# Altium schematic symbol library ic.SchLib: 65 symbols
Pins are listed as number, name and electrical type; pins without a type are passive.

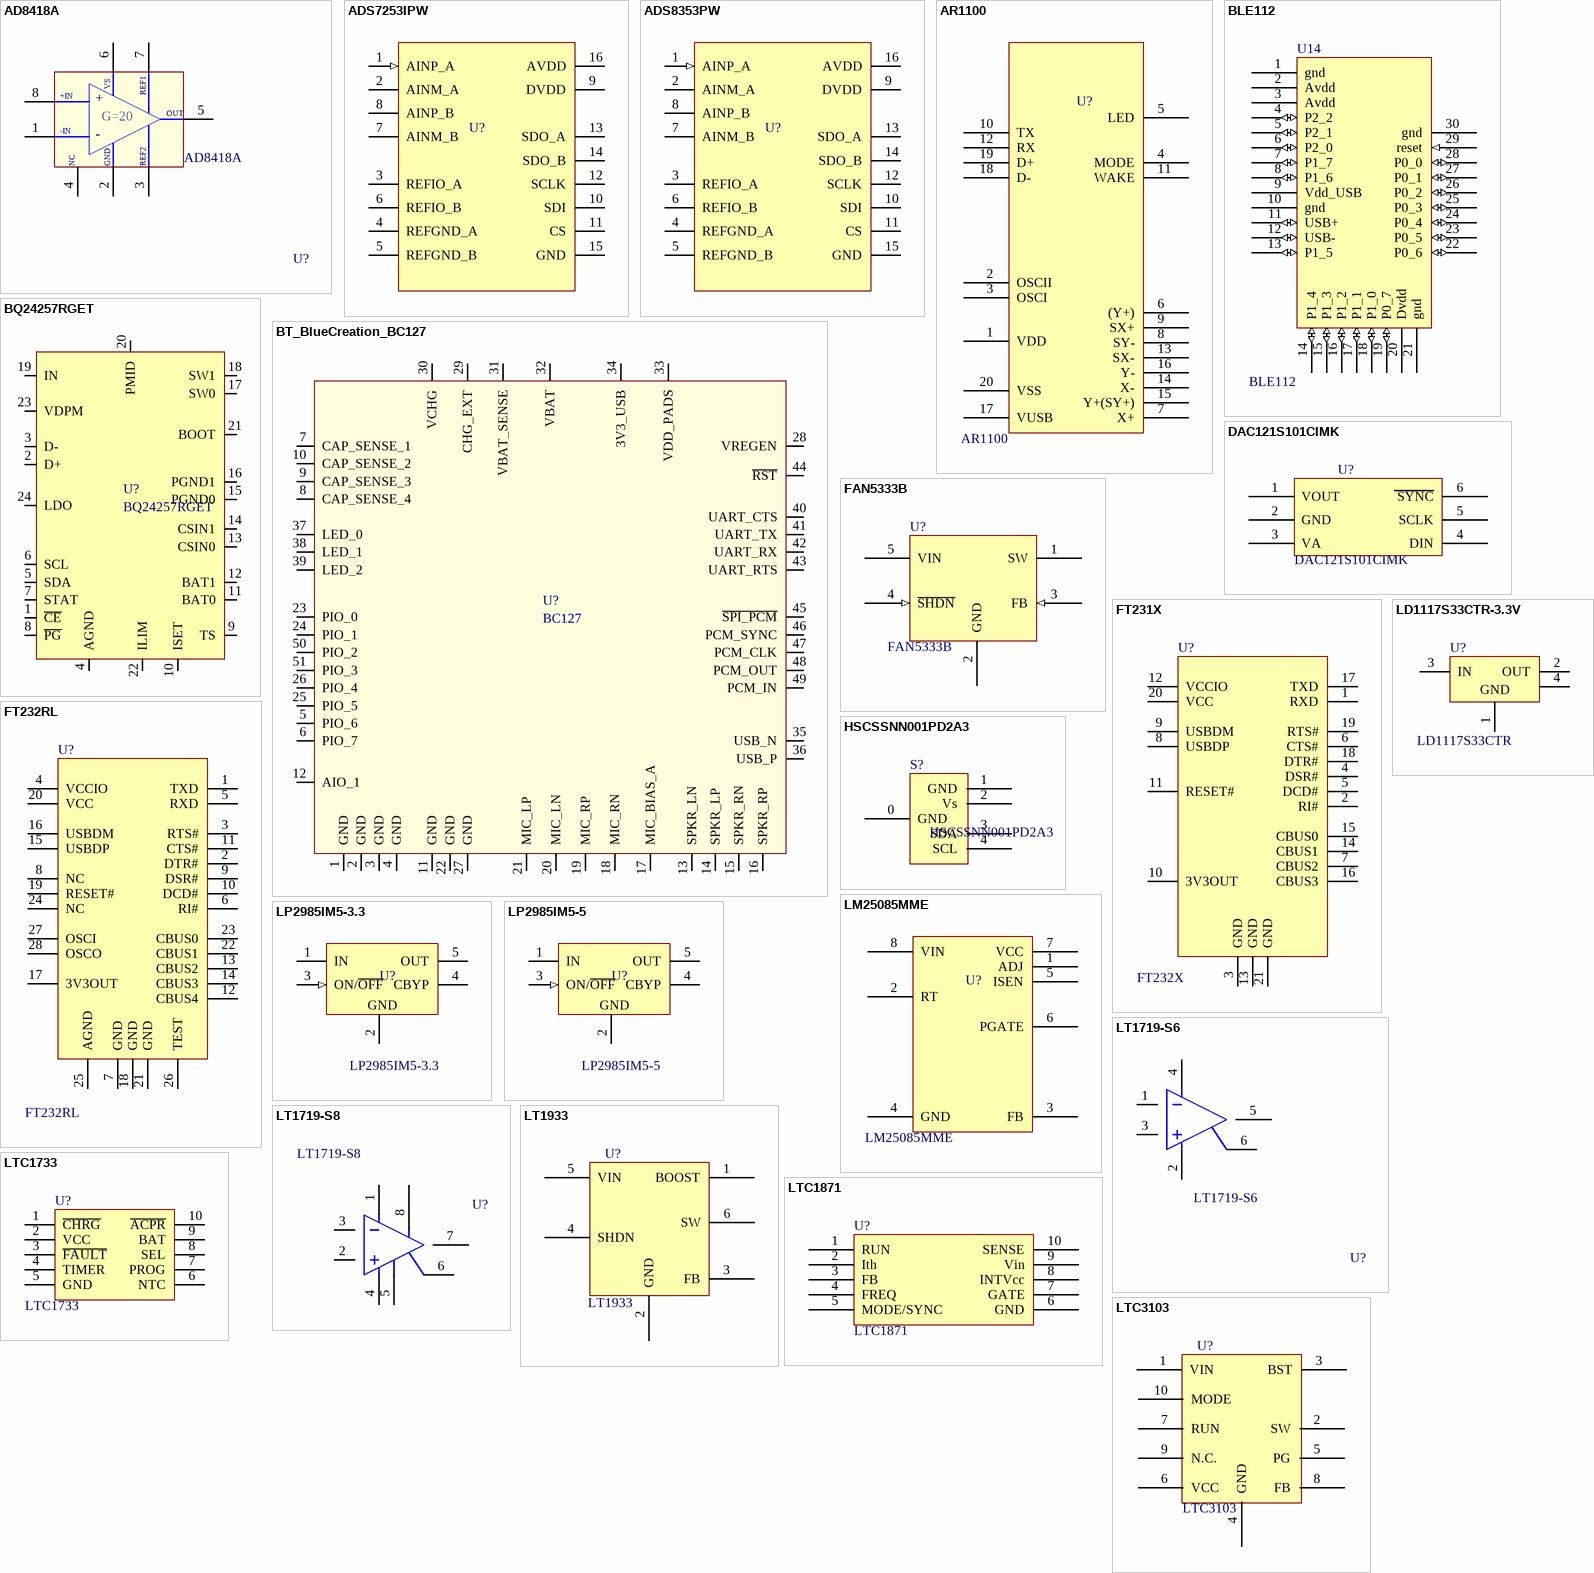
[diagram p0: symbols AD8418A to LTC3103]

## AD8418A
designator U?  value AD8418A  (hidden comment: *)
ANALOG DEVICES  AD8418AWBRMZ  AMPLIFIER, CURRENT SENSE, 250KHZ, MSOP-8; Order ID: 2383471; Price: 870; Distributor: Farnell
footprint MSOP8
pins: 1 -IN, 2 GND, 3 VREF2, 4 NC, 5 OUT, 6 VS, 7 VREF1, 8 +IN
text: REF1; +; G=20; -; REF2

## ADS7253IPW
designator U?
Analog to Digital Converters - ADC SAR ADC,Dual,1MSPS 12B,Sim Sampling; Order ID: 595-ADS7253IPW; Distributor: Mouser; Price: 2250; Value: ADS7253IPW
footprint TSSOP-16 (Shrink Small Outline, Plastic, Thin; 16 Leads; Body Width 4.4 mm; Pitch 0.65 mm)
pins: 1 AINP_A (in), 2 AINM_A (power), 3 REFIO_A, 4 REFGND_A, 5 REFGND_B, 6 REFIO_B, 7 AINM_B, 8 AINP_B, 9 DVDD, 10 SDI, 11 CS, 12 SCLK, 13 SDO_A, 14 SDO_B, 15 GND, 16 AVDD

## ADS8353PW
designator U?
Analog to Digital Converters - ADC SAR ADC,Dual,1MSPS 12B,Sim Sampling; Order ID: 296-38533-1-ND; Distributor: Digikey; Price: 2250; Value: ADS8353PW
footprint TSSOP-16 (Shrink Small Outline, Plastic, Thin; 16 Leads; Body Width 4.4 mm; Pitch 0.65 mm)
pins: 1 AINP_A (in), 2 AINM_A (power), 3 REFIO_A, 4 REFGND_A, 5 REFGND_B, 6 REFIO_B, 7 AINM_B, 8 AINP_B, 9 DVDD, 10 SDI, 11 CS, 12 SCLK, 13 SDO_A, 14 SDO_B, 15 GND, 16 AVDD

## AR1100
designator U?  value AR1100
AR1100-I/SO 20 SOIC .300in TUBcse 38; Order ID: MIC16994; Distributor: Chipcad; Price: 560
footprint SOIC300-20_M (20-Pin Plastic Wide Body Small Outline Integrated Circuit 1.27 mm Pitch, IPC Low Density)
pins: 1 VDD (power), 2 OSCII, 3 OSCI, 4 MODE, 5 LED, 6 (Y+), 7 X+, 8 SY-, 9 SX+, 10 TX, 11 WAKE, 12 RX, 13 SX-, 14 X-, 15 Y+(SY+), 16 Y-, 17 VUSB, 18 D-, 19 D+, 20 VSS (power)

## BLE112
designator U14, comment value BLE112  (hidden comment: Bluetooth module)
Bluegiga low energy single mode  module; Order ID: 1446-1017-1-ND; Distributor: Digikey; Price: 4500
footprint BLE112 (Bluegiga Bluetooth 4.0 module)
pins: 1 gnd (power), 2 Avdd (power), 3 Avdd (power), 4 P2_2 (io), 5 P2_1 (io), 6 P2_0 (io), 7 P1_7 (io), 8 P1_6 (io), 9 Vdd_USB (power), 10 gnd (power), 11 USB+ (io), 12 USB- (io), 13 P1_5 (io), 14 P1_4 (io), 15 P1_3 (io), 16 P1_2 (io), 17 P1_1 (io), 18 P1_0 (io), 19 P0_7 (io), 20 Dvdd (power), 21 gnd (power), 22 P0_6 (io), 23 P0_5 (io), 24 P0_4 (io), 25 P0_3 (io), 26 P0_2 (io), 27 P0_1 (io), 28 P0_0 (io), 29 reset (in), 30 gnd (power)

## BQ24257RGET
designator U?
IC BATT CHARGER SWITCH MODE LI-ION 24VQFN; Order ID: 296-36452-1-ND; Distributor: Digikey; Price: 280; Value: BQ24257RGET
footprint VQFN_24 (QFN, 24-Leads, Body 4x4mm, Pitch 0.5mm, Height 0.9mm)
pins: 1 ~{CE}, 2 D+, 3 D-, 4 AGND, 5 SDA, 6 SCL, 7 STAT, 8 ~{PG}, 9 TS, 10 ISET, 11 BAT0, 12 BAT1, 13 CSIN0, 14 CSIN1, 15 PGND0, 16 PGND1, 17 SW0, 18 SW1, 19 IN, 20 PMID, 21 BOOT, 22 ILIM, 23 VDPM, 24 LDO

## BT_BlueCreation_BC127
designator U?, comment BC127
Dual mode Bluetooth module; Distributor: Blue Creation; Order ID: BC127; Price: 7200; Value: BC127
footprint BT_BC127_BLUE_CREATION (Bluegiga bluetooth wt12)
pins: 1 GND, 2 GND, 3 GND, 4 GND, 5 PIO_6, 6 PIO_7, 7 CAP_SENSE_1, 8 CAP_SENSE_4, 9 CAP_SENSE_3, 10 CAP_SENSE_2, 11 GND, 12 AIO_1, 13 SPKR_LN, 14 SPKR_LP, 15 SPKR_RN, 16 SPKR_RP, 17 MIC_BIAS_A, 18 MIC_RN, 19 MIC_RP, 20 MIC_LN, 21 MIC_LP, 22 GND, 23 PIO_0, 24 PIO_1, 25 PIO_5, 26 PIO_4, 27 GND, 28 VREGEN, 29 CHG_EXT, 30 VCHG, 31 VBAT_SENSE, 32 VBAT, 33 VDD_PADS, 34 3V3_USB, 35 USB_N, 36 USB_P, 37 LED_0, 38 LED_1, 39 LED_2, 40 UART_CTS, 41 UART_TX, 42 UART_RX, 43 UART_RTS, 44 ~{RST}, 45 ~{SPI_PCM}, 46 PCM_SYNC, 47 PCM_CLK, 48 PCM_OUT, 49 PCM_IN, 50 PIO_2, 51 PIO_3

## DAC121S101CIMK
designator U?  value DAC121S101CIMK  (hidden comment: *)
TEXAS INSTRUMENTS  DAC121S101CIMK  IC, 12BIT DAC RL-RL O/P, POWERWISE; Order ID: 1101198; Distributor: Farnell; Price: 1150
footprint SOT23-6
pins: 1 VOUT, 2 GND, 3 VA, 4 DIN, 5 SCLK, 6 SYNC

## FAN5333B
designator U?  value FAN5333B  (hidden comment: *)
FAN5333B 30V 1.6MHz boost converter; Order ID: FAN5333BSXCT-ND; Price: 200; Distributor: Digikey
footprint SOT23-5
pins: 1 SW (power), 2 GND (power), 3 FB (in), 4 ~{SHDN} (in), 5 VIN (power)

## FT231X
designator U?  value FT232X  (hidden comment: *)
FT232RL (FTD) USB UART IC SSOP-28 [89-21-46]; Distributor: Lomex; Order ID: 89-21-46; Price: 872
footprint QFN50P400X400X80_HS-21N (QFN, 20-Leads, Body 4,00x4,00mm, Pitch 0,50mm, Thermal Pad 1,98x1,98mm, IPC Medium Density)
pins: 1 RXD, 2 RI#, 3 GND, 4 DSR#, 5 DCD#, 6 CTS#, 7 CBUS2, 8 USBDP, 9 USBDM, 10 3V3OUT, 11 RESET#, 12 VCCIO, 13 GND, 14 CBUS1, 15 CBUS0, 16 CBUS3, 17 TXD, 18 DTR#, 19 RTS#, 20 VCC, 21 GND
2 alternate drawings of the same symbol

## FT232RL
designator U?  value FT232RL  (hidden comment: *)
FT232RL (FTD) USB UART IC SSOP-28 [89-21-46]; Distributor: Lomex; Order ID: 89-21-46; Price: 872
footprint SSOP-28_3D (SSOP, Plastic; 28 Leads; Body Width 5.2 mm; Pitch 0.65 mm)
pins: 1 TXD, 2 DTR#, 3 RTS#, 4 VCCIO, 5 RXD, 6 RI#, 7 GND, 8 NC, 9 DSR#, 10 DCD#, 11 CTS#, 12 CBUS4, 13 CBUS2, 14 CBUS3, 15 USBDP, 16 USBDM, 17 3V3OUT, 18 GND, 19 RESET#, 20 VCC, 21 GND, 22 CBUS1, 23 CBUS0, 24 NC, 25 AGND, 26 TEST, 27 OSCI, 28 OSCO
2 alternate drawings of the same symbol

## HSCSSNN001PD2A3
designator S?
HONEYWELL S&C - HSCSSNN001PD2A3 - SENSOR, TRUSTABILITY, 1PSI, 3.3V, SIP; Order ID: 1823228; Distributor: Farnell; Price: 12200; Value: HSCSSNN001PD2A3
footprint HONEYWELL_HSC_SN_90D (Honeywell HSC SERIES PRESSURE SENSORE)
pins: 0 GND, 1 GND, 2 Vs, 3 SDA, 4 SCL

## LD1117S33CTR-3.3V
designator U?  value LD1117S33CTR
LD1117S33CTR (STM) FIX 3.3V 0.95A LDO.VOLT.REG. SOT-223 -40+150°C [89-06-98]; Distributor: Lomex; Order ID: 89-06-98; Price: 40
footprint SOT-223
pins: 1 GND, 2 OUT, 3 IN, 4 GND
2 alternate drawings of the same symbol

## LM25085MME
designator U?
TEXAS INSTRUMENTS - LM25085MME - IC, SW BUCK CONTROLLER, 42V, 8SOIC; Order ID: 1689554; Distributor: Farnell; Price: 787; Value: LM25085MME
footprint MSOP8
pins: 1 ADJ, 2 RT, 3 FB, 4 GND, 5 ISEN, 6 PGATE, 7 VCC, 8 VIN

## LP2985IM5-3.3
designator U?
Micropower 150 mA Low-Noise Ultra Low-Dropout Regulator in  SOT-23 and micro SMD Packages; Value: LP2985IM5-3.3; Distributor: Lomex; Price: 108; Order ID: 89-08-85
footprint SOT23-5
pins: 1 IN (power), 2 GND (power), 3 ON/~{OFF} (in), 4 CBYP, 5 OUT (power)

## LP2985IM5-5
designator U?
Micropower 150 mA Low-Noise Ultra Low-Dropout Regulator in  SOT-23 and micro SMD Packages; Order ID: 1564671; Value: LP2985IM5-5; Distributor: Farnell; Price: 240
footprint SOT23-5
pins: 1 IN (power), 2 GND (power), 3 ON/~{OFF} (in), 4 CBYP, 5 OUT (power)

## LT1719-S6
designator U?  value LT1719-S6  (hidden comment: *)
4.5ns Single/Dual Supply 3V/5V IC COMP R-RINOUT SINGLE SOT23-6; Order ID: LT1719CS6#TRMPBFCT-ND; Price: 700; Distributor: Digikey
footprint SOT23-6
pins: 1 IN-, 2 VEE, 3 IN+, 4 VCC, 5 OUT, 6 SHDN

## LT1719-S8
designator U?  value LT1719-S8  (hidden comment: *)
4.5ns Single/Dual Supply 3V/5V Comparator with Rail-to-Rail Output; Order ID: LT1719CS8#PBF-ND; Price: 800.00; Distributor: Digikey
footprint Model Name (Footprint not found)
footprint SO-8_N (8-Pin Small Outline Integrated Circuit 1.27 mm Pitch, IPC Medium Density)
pins: 1 VCC, 2 IN+, 3 IN-, 4 VEE, 5 GND, 6 SHDN, 7 OUT, 8 VS

## LT1933
designator U?  value LT1933  (hidden comment: *)
LINEAR TECHNOLOGY  LT1933ES6#TRMPBF  IC, SWITCHING REG, 500KHZ, TSOT23-6; Order ID: 1663809RL; Distributor: Farnell; Price: 1145
footprint SOT23-6
pins: 1 BOOST, 2 GND, 3 FB, 4 SHDN, 5 VIN, 6 SW

## LTC1733
designator U?
LTC1733 Li-Ion Battery Charger; Order ID: LTC1733EMSE#PBF-ND; Distributor: Digikey; Price: 780; Value: LTC1733
footprint MSOP10H
pins: 1 ~{CHRG}, 2 VCC, 3 ~{FAULT}, 4 TIMER, 5 GND, 6 NTC, 7 PROG, 8 SEL, 9 BAT, 10 ~{ACPR}

## LTC1871
designator U?
LINEAR TECHNOLOGY - LTC1871EMS#PBF - IC, DC/DC CONTROLLER, MOSFET, MSOP-10; Order ID: 1273534; Distributor: Farnell; Price: 1100; Value: LTC1871
footprint MSOP10
pins: 1 RUN, 2 Ith, 3 FB, 4 FREQ, 5 MODE/SYNC, 6 GND, 7 GATE, 8 INTVcc, 9 Vin, 10 SENSE

## LTC3103
designator U?  value LTC3103  (hidden comment: *)
IC REG BUCK SYNC ADJ 0.3A 10MSOP LTC3103EMSE#PBF; Order ID: LTC3103EMSE#PBF-ND; Distributor: Digikey; Price: 1145
footprint MSOP10
pins: 1 VIN, 2 SW, 3 BST, 4 GND, 5 PG, 6 VCC, 7 RUN, 8 FB, 9 N.C., 10 MODE

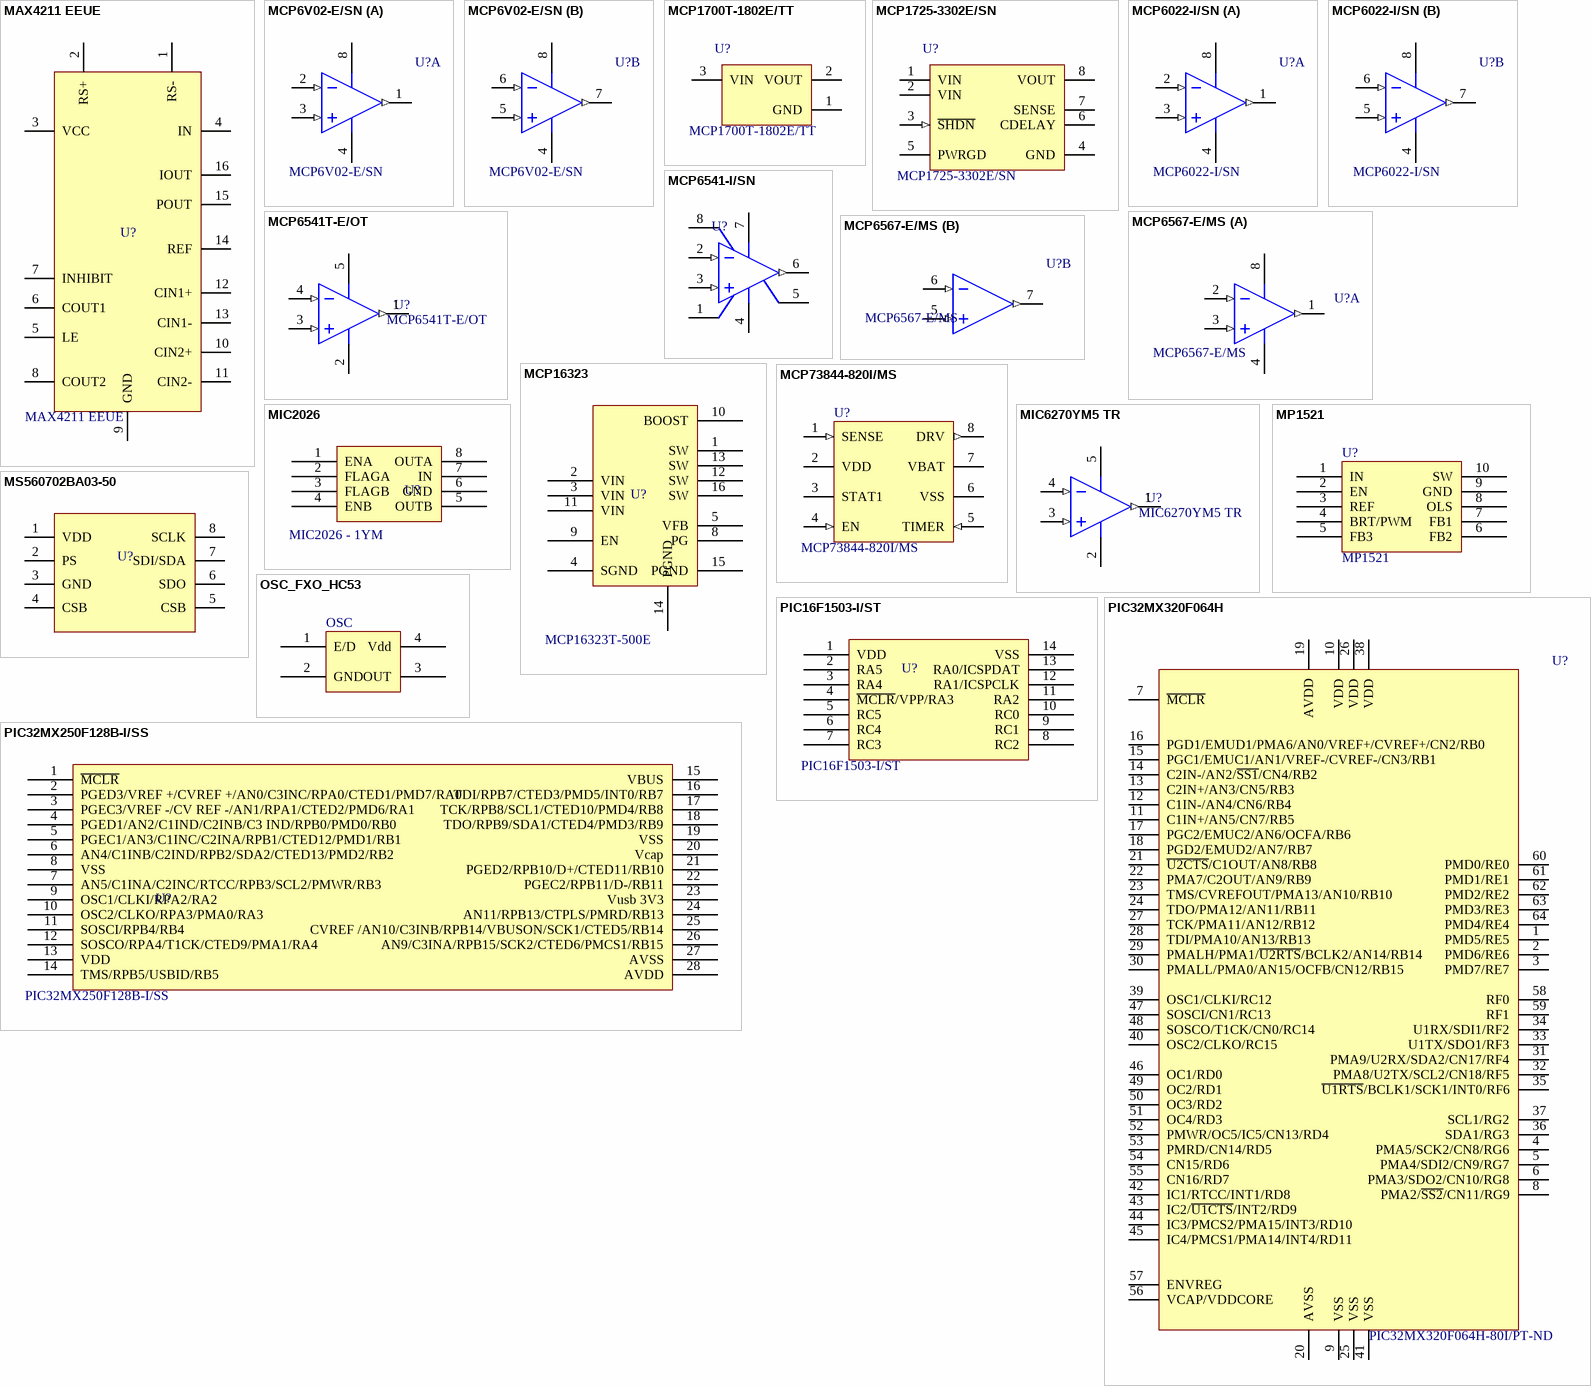
[diagram p1: symbols MAX4211 EEUE to PIC32MX320F064H]

## MAX4211 EEUE
designator U?  value MAX4211 EEUE
MAXIM INTEGRATED PRODUCTS  MAX4211EEUE+  POWER / CURRENT SENSE, 2 COMP, 16TSSOP; Order ID: 2212278; Distributor: Farnell; Price: 1166
footprint TSSOP-16 (Shrink Small Outline, Plastic, Thin; 16 Leads; Body Width 4.4 mm; Pitch 0.65 mm)
pins: 1 RS-, 2 RS+, 3 VCC, 4 IN, 5 LE, 6 COUT1, 7 INHIBIT, 8 COUT2, 9 GND, 10 CIN2+, 11 CIN2-, 12 CIN1+, 13 CIN1-, 14 REF, 15 POUT, 16 IOUT

## MCP6V02-E/SN
designator U?  value MCP6V02-E/SN  (hidden comment: *)
Operational Amplifiers - Op Amps Dual Auto-Zero Op Amp E Temp; Order ID: 579-MCP6V02-E/SN; Price: 720; Distributor: Mouser
footprint SOIC-SN8_N (SOIC, 8-Leads, Body 4.9x3.8mm, Pitch 1.27mm, IPC Medium Density)
pins on every part: 4 VSS (power), 8 VDD (power)
part A pins: 1 VOUTA (out), 2 VINA- (in), 3 VINA+ (in)
part B pins: 5 VINB+ (in), 6 VINB- (in), 7 VOUTB (out)

## MCP1700T-1802E/TT
designator U?
Low Quiescent Current LDO, 3-Pin SOT-23, Extended Temperature, Tape and Reel; Order ID: MIC3628; Price: 87; Distributor: Chipcad; Value: MCP1700T-1802E/TT
footprint SOT-23-3_N (SOT23, 3-Leads, Body 2.9x1.3mm, Pitch 0.95mm, Lead Span 2.4mm, IPC Medium Density)
pins: 1 GND (power), 2 VOUT (power), 3 VIN (power)

## MCP1725-3302E/SN
designator U?
MCP1725-3302E/SN SOIC-8 3,3V 500mA; Order ID: MIC8535; Distributor: Chipcad; Price: 122; Value: MCP1725-3302E/SN
footprint SO-8_N (8-Pin Small Outline Integrated Circuit 1.27 mm Pitch, IPC Medium Density)
pins: 1 VIN (power), 2 VIN (power), 3 ~{SHDN} (in), 4 GND (power), 5 PWRGD (power), 6 CDELAY, 7 SENSE, 8 VOUT (power)

## MCP6022-I/SN
designator U?  value MCP6022-I/SN  (hidden comment: *)
Rail-to-Rail Input/Output, 10 MHz Operational Amplifier, 8-Pin SOIC, Industrial Temperature; Order ID: MCP6022-I/SN; Price: 260.00; Distributor: ChipCAD
footprint SO-8_N (8-Pin Small Outline Integrated Circuit 1.27 mm Pitch, IPC Medium Density)
footprint SOIC-SN8_L (SOIC, 8-Leads, Body 4.9x3.8mm, Pitch 1.27mm, IPC High Density)
footprint SOIC-SN8_M (SOIC, 8-Leads, Body 4.9x3.8mm, Pitch 1.27mm, IPC Low Density)
footprint SOIC-SN8_N (SOIC, 8-Leads, Body 4.9x3.8mm, Pitch 1.27mm, IPC Medium Density)
footprint SO8
pins on every part: 4 VSS (power), 8 VDD (power)
part A pins: 1 VOUTA (out), 2 VINA- (in), 3 VINA+ (in)
part B pins: 5 VINB+ (in), 6 VINB- (in), 7 VOUTB (out)

## MCP6541-I/SN
designator U?
Push-Pull Output Sub-Microamp Comparator, 8-Pin SOIC, Industrial Temperature; Value: MCP6541-I/SN; Order ID: MIC1965; Distributor: Chipcad; Price: 53
footprint SOIC-SN8_N (SOIC, 8-Leads, Body 4.9x3.8mm, Pitch 1.27mm, IPC Medium Density)
pins: 1 NC, 2 VIN- (in), 3 VIN+ (in), 4 VSS (power), 5 NC, 6 OUT (out), 7 VDD (power), 8 NC

## MCP6541T-E/OT
designator U?
Push-Pull Output Sub-Microamp Comparator, 5-Pin SOT-23, Extended Temperature, Tape and Reel; Order ID: MIC6791; Value: MCP6541T-E/OTGVAO; Distributor: Chipcad; Price: 80
footprint SOT23-5
pins: 1 OUT (out), 2 VSS (power), 3 VIN+ (in), 4 VIN- (in), 5 VDD (power)

## MCP6567-E/MS
designator U?  value MCP6567-E/MS  (hidden comment: *)
Analogue Comparator, Dual, Low Power, 2, 34 ns, 1.8V to 5.5V, MSOP, 8; Order ID: 1834862; Price: 216; Distributor: Farnell
footprint MSOP8
part A pins: 1 VOUTA (out), 2 VINA- (in), 3 VINA+ (in), 4 VSS (power), 8 VDD (power)
part B pins: 5 VINB+ (in), 6 VINB- (in), 7 VOUTB (out)

## MCP16323
designator U?  value MCP16323T-500E  (hidden comment: MCP16323)
MCP16323T-500E/NG 16 VQFN 3x3x0.9mm; Order ID: MIC18788; Distributor: Chipcad; Price: 550
footprint QFN50P300X300-16W4M_3D (QFN, 16-Leads, Body 3x3mm, Pitch 0.5mm, IPC Low Density)
pins: 1 SW, 2 VIN, 3 VIN, 4 SGND, 5 VFB, 6 NC hidden, 7 NC hidden, 8 PG, 9 EN, 10 BOOST, 11 VIN, 12 SW, 13 SW, 14 PGND, 15 PGND, 16 SW

## MCP73844-820I/MS
designator U?  value MCP73844-820I/MS
Dual Series cell Li-Ion/Li-Polymer Charge Management Controller, 8.2V, 8-Pin MSOP, Industrial Temperature; Order ID: MIC2680; Distributor: Chipcad; Price: 310
footprint MSOP8
pins: 1 SENSE (in), 2 VDD (power), 3 STAT1 (oc), 4 EN (in), 5 TIMER (in), 6 VSS (power), 7 VBAT (power), 8 DRV (out)

## MIC2026
designator U?, comment MIC2026 - 1YM
MICREL SEMICONDUCTOR - MIC2026-1YM - SWITCH, MOSFET, DUAL, 140R, 0.5A, 8SOIC; Order ID: 1517242; Distributor: Farnell; Price: 293.86; Value: MIC2026 - 1YM
footprint SOIC208-8_M (8-Pin Plastic Medium Body Small Outline Package 1.27 mm Pitch, IPC Low Density)
pins: 1 ENA, 2 FLAGA, 3 FLAGB, 4 ENB, 5 OUTB, 6 GND, 7 IN, 8 OUTA

## MIC6270YM5 TR
designator U?
Comparator, OPEN COLLECTOR MICREL SEMICONDUCTOR  MIC6270YM5 TR  COMPARATOR, 36V, 0.6US, 5SOT23; Order ID: 2219060; Distributor: Farnell; Price: 190; Value: MIC6270YM5 TR
footprint SOT23-5
pins: 1 OUT (out), 2 VSS (power), 3 VIN+ (in), 4 VIN- (in), 5 VDD (power)

## MP1521
designator U?
White led driver, boost converter up to 15 white led.; Order ID: MP1521EK; Value: MP1521; Distributor: Chipcad; Price: 390
footprint MSOP10
pins: 1 IN, 2 EN, 3 REF, 4 BRT/PWM, 5 FB3, 6 FB2, 7 FB1, 8 OLS, 9 GND, 10 SW

## MS560702BA03-50
designator U?  (value not drawn)
SENSOR, BAROMETRIC, 0.01-1.2BAR; Order ID: 2362660; Distributor: Farnell; Price: 685; Value: MS560702BA03-50
footprint MS5607-02BA
pins: 1 VDD, 2 PS, 3 GND, 4 CSB, 5 CSB, 6 SDO, 7 SDI/SDA, 8 SCLK

## OSC_FXO_HC53
designator OSC
OSC_FXO_HC53; Value: 200MHz; Order ID: 631-1153-1-ND; Distributor: Digikey; Price: 1620
footprint OSC_FXO_HC53
pins: 1 E/D, 2 GND, 3 OUT, 4 Vdd

## PIC16F1503-I/ST
designator U?
PIC16F1503-I/ST 14 TSSOP 4.4mm TUBcse 96; Order ID: MIC17244; Distributor: Chipcad; Price: 193; Value: PIC16F1503-I/ST
footprint TSSOP-14 (Shrink Small Outline, Plastic, Thin; 14 Leads; Body Width 4.4 mm; Pitch 0.65 mm)
pins: 1 VDD, 2 RA5, 3 RA4, 4 ~{MCLR}/VPP/RA3, 5 RC5, 6 RC4, 7 RC3, 8 RC2, 9 RC1, 10 RC0, 11 RA2, 12 RA1/ICSPCLK, 13 RA0/ICSPDAT, 14 VSS

## PIC32MX250F128B-I/SS
designator U?  value PIC32MX250F128B-I/SS
MICROCHIP - PIC32MX250F128B-I/SS - IC, MCU, 32BIT, 128KB FLASH, 28SSOP; Order ID: MIC18703; Distributor: Chipcad; Price: 850
footprint SSOP-28_3D (SSOP, Plastic; 28 Leads; Body Width 5.2 mm; Pitch 0.65 mm)
pins: 1 ~{MCLR}, 2 PGED3/VREF +/CVREF +/AN0/C3INC/RPA0/CTED1/PMD7/RA0, 3 PGEC3/VREF -/CV REF -/AN1/RPA1/CTED2/PMD6/RA1, 4 PGED1/AN2/C1IND/C2INB/C3 IND/RPB0/PMD0/RB0, 5 PGEC1/AN3/C1INC/C2INA/RPB1/CTED12/PMD1/RB1, 6 AN4/C1INB/C2IND/RPB2/SDA2/CTED13/PMD2/RB2, 7 AN5/C1INA/C2INC/RTCC/RPB3/SCL2/PMWR/RB3, 8 VSS, 9 OSC1/CLKI/RPA2/RA2, 10 OSC2/CLKO/RPA3/PMA0/RA3, 11 SOSCI/RPB4/RB4, 12 SOSCO/RPA4/T1CK/CTED9/PMA1/RA4, 13 VDD, 14 TMS/RPB5/USBID/RB5, 15 VBUS, 16 TDI/RPB7/CTED3/PMD5/INT0/RB7, 17 TCK/RPB8/SCL1/CTED10/PMD4/RB8, 18 TDO/RPB9/SDA1/CTED4/PMD3/RB9, 19 VSS, 20 Vcap, 21 PGED2/RPB10/D+/CTED11/RB10, 22 PGEC2/RPB11/D-/RB11, 23 Vusb 3V3, 24 AN11/RPB13/CTPLS/PMRD/RB13, 25 CVREF /AN10/C3INB/RPB14/VBUSON/SCK1/CTED5/RB14, 26 AN9/C3INA/RPB15/SCK2/CTED6/PMCS1/RB15, 27 AVSS, 28 AVDD

## PIC32MX320F064H
designator U?  value PIC32MX320F064H-80I/PT-ND  (hidden comment: *)
PIC32MX320F064H-80I/PT - 32BIT MCU, 64K FLASH, SMD, TQFP64; Distributor: Digikey; Order ID: PIC32MX320F064H-80I/PT-ND; Price: 1300
footprint TQFP-64_PT
pins: 1 PMD5/RE5, 2 PMD6/RE6, 3 PMD7/RE7, 4 PMA5/SCK2/CN8/RG6, 5 PMA4/SDI2/CN9/RG7, 6 PMA3/SDO2/CN10/RG8, 7 ~{MCLR}, 8 PMA2/~{SS2}/CN11/RG9, 9 VSS, 10 VDD, 11 C1IN+/AN5/CN7/RB5, 12 C1IN-/AN4/CN6/RB4, 13 C2IN+/AN3/CN5/RB3, 14 C2IN-/AN2/~{SS1}/CN4/RB2, 15 PGC1/EMUC1/AN1/VREF-/CVREF-/CN3/RB1, 16 PGD1/EMUD1/PMA6/AN0/VREF+/CVREF+/CN2/RB0, 17 PGC2/EMUC2/AN6/OCFA/RB6, 18 PGD2/EMUD2/AN7/RB7, 19 AVDD, 20 AVSS, 21 ~{U2CTS}/C1OUT/AN8/RB8, 22 PMA7/C2OUT/AN9/RB9, 23 TMS/CVREFOUT/PMA13/AN10/RB10, 24 TDO/PMA12/AN11/RB11, 25 VSS, 26 VDD, 27 TCK/PMA11/AN12/RB12, 28 TDI/PMA10/AN13/RB13, 29 PMALH/PMA1/~{U2RTS}/BCLK2/AN14/RB14, 30 PMALL/PMA0/AN15/OCFB/CN12/RB15, 31 PMA9/U2RX/SDA2/CN17/RF4, 32 PMA8/U2TX/SCL2/CN18/RF5, 33 U1TX/SDO1/RF3, 34 U1RX/SDI1/RF2, 35 ~{U1RTS}/BCLK1/SCK1/INT0/RF6, 36 SDA1/RG3, 37 SCL1/RG2, 38 VDD, 39 OSC1/CLKI/RC12, 40 OSC2/CLKO/RC15, 41 VSS, 42 IC1/RTCC/INT1/RD8, 43 IC2/~{U1CTS}/INT2/RD9, 44 IC3/PMCS2/PMA15/INT3/RD10, 45 IC4/PMCS1/PMA14/INT4/RD11, 46 OC1/RD0, 47 SOSCI/CN1/RC13, 48 SOSCO/T1CK/CN0/RC14, 49 OC2/RD1, 50 OC3/RD2, 51 OC4/RD3, 52 PMWR/OC5/IC5/CN13/RD4, 53 PMRD/CN14/RD5, 54 CN15/RD6, 55 CN16/RD7, 56 VCAP/VDDCORE, 57 ENVREG, 58 RF0, 59 RF1, 60 PMD0/RE0, 61 PMD1/RE1, 62 PMD2/RE2, 63 PMD3/RE3, 64 PMD4/RE4
2 alternate drawings of the same symbol

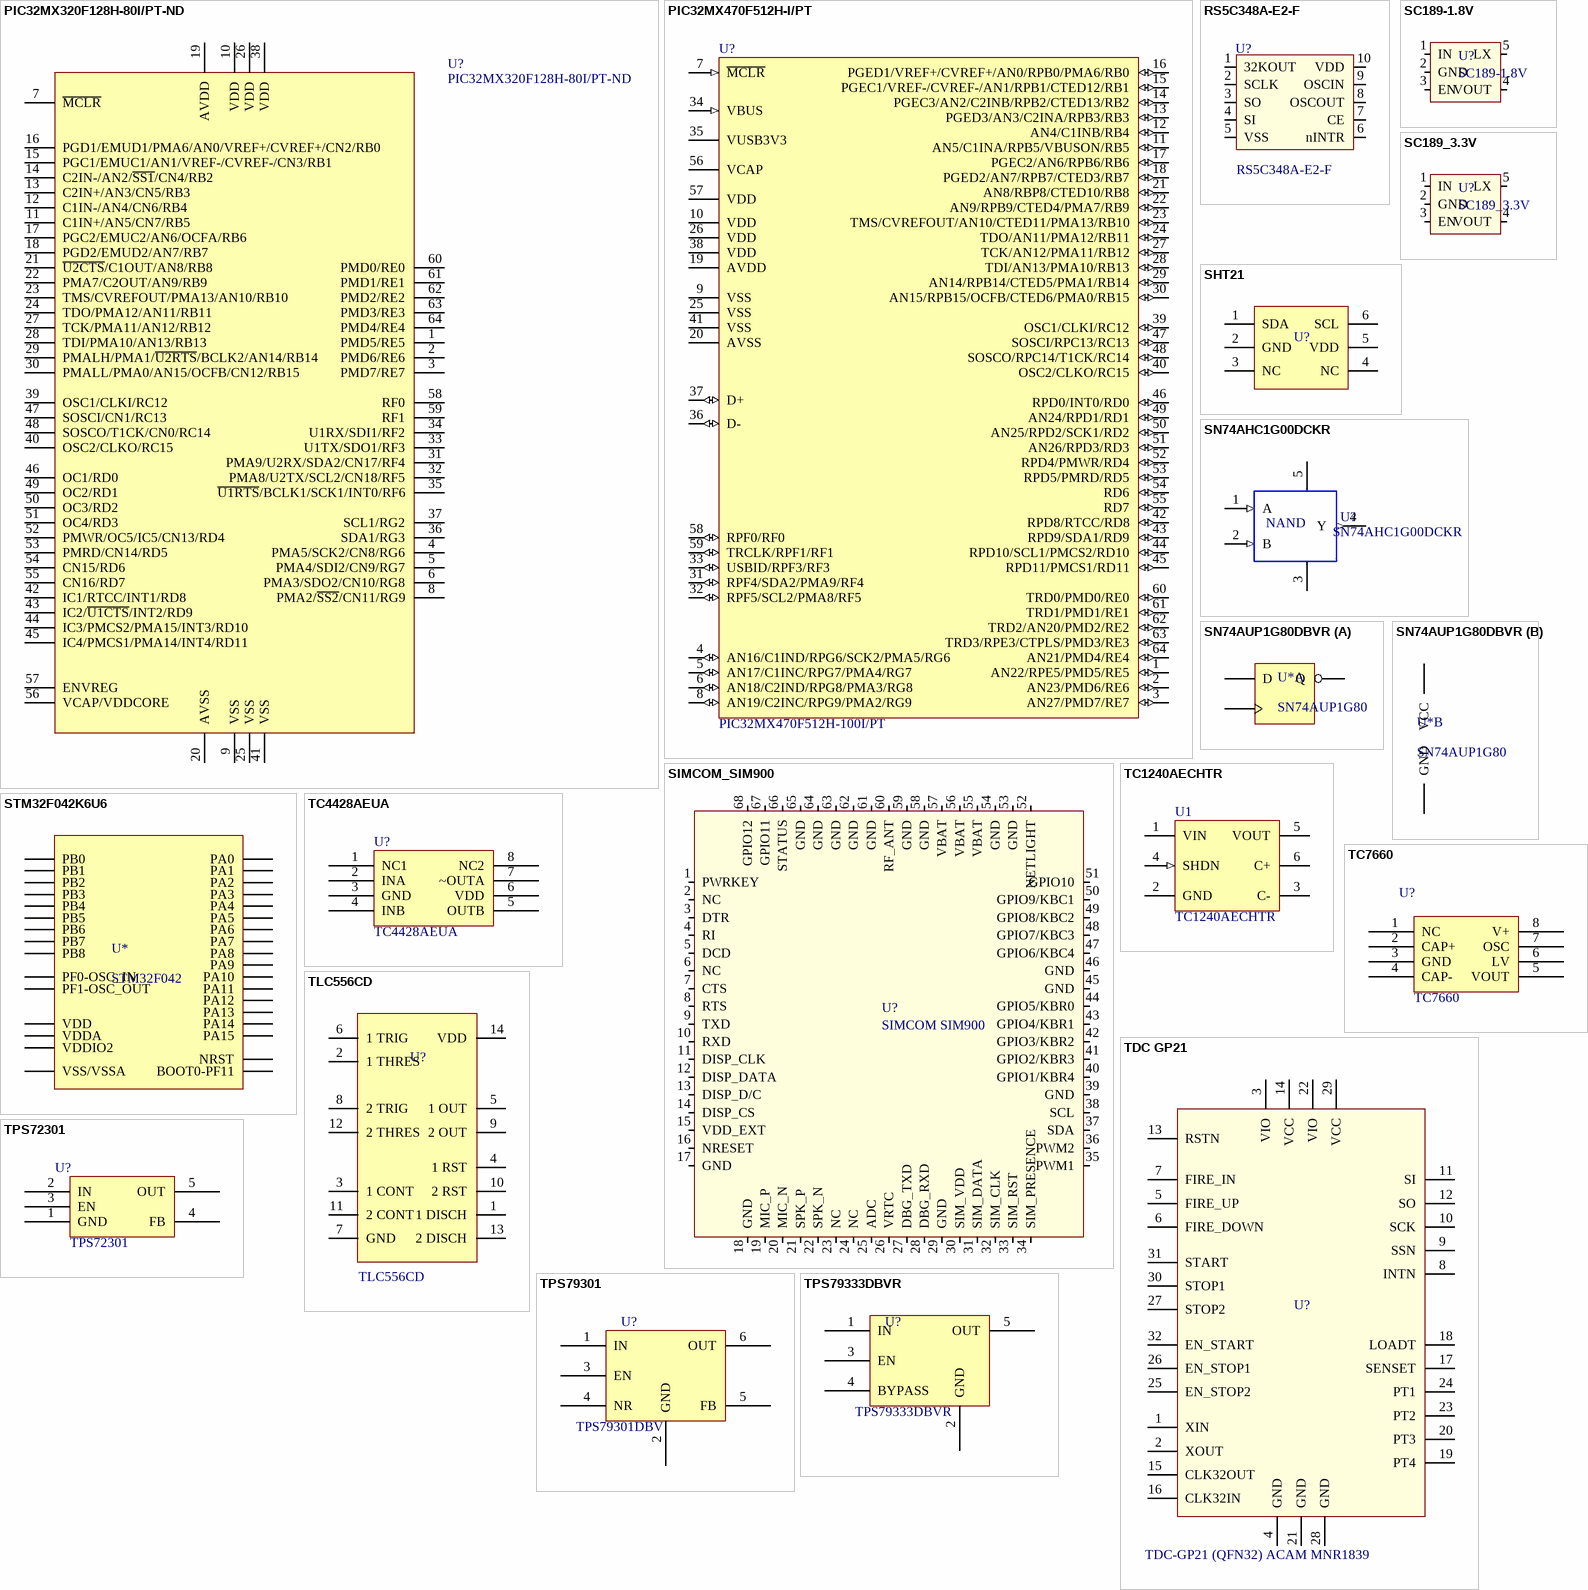
[diagram p2: symbols PIC32MX320F128H-80I/PT-ND to TPS79333DBVR]

## PIC32MX320F128H-80I/PT-ND
designator U?
PIC32MX320F128H-80I/PT - 32BIT MCU, 128K FLASH, SMD, TQFP64; Distributor: Digikey; Order ID: PIC32MX320F128H-80I/PT-ND; Price: 1300; Value: PIC32MX320F128H-80I/PT-ND
footprint TQFP-64_PT
pins: 1 PMD5/RE5, 2 PMD6/RE6, 3 PMD7/RE7, 4 PMA5/SCK2/CN8/RG6, 5 PMA4/SDI2/CN9/RG7, 6 PMA3/SDO2/CN10/RG8, 7 ~{MCLR}, 8 PMA2/~{SS2}/CN11/RG9, 9 VSS, 10 VDD, 11 C1IN+/AN5/CN7/RB5, 12 C1IN-/AN4/CN6/RB4, 13 C2IN+/AN3/CN5/RB3, 14 C2IN-/AN2/~{SS1}/CN4/RB2, 15 PGC1/EMUC1/AN1/VREF-/CVREF-/CN3/RB1, 16 PGD1/EMUD1/PMA6/AN0/VREF+/CVREF+/CN2/RB0, 17 PGC2/EMUC2/AN6/OCFA/RB6, 18 PGD2/EMUD2/AN7/RB7, 19 AVDD, 20 AVSS, 21 ~{U2CTS}/C1OUT/AN8/RB8, 22 PMA7/C2OUT/AN9/RB9, 23 TMS/CVREFOUT/PMA13/AN10/RB10, 24 TDO/PMA12/AN11/RB11, 25 VSS, 26 VDD, 27 TCK/PMA11/AN12/RB12, 28 TDI/PMA10/AN13/RB13, 29 PMALH/PMA1/~{U2RTS}/BCLK2/AN14/RB14, 30 PMALL/PMA0/AN15/OCFB/CN12/RB15, 31 PMA9/U2RX/SDA2/CN17/RF4, 32 PMA8/U2TX/SCL2/CN18/RF5, 33 U1TX/SDO1/RF3, 34 U1RX/SDI1/RF2, 35 ~{U1RTS}/BCLK1/SCK1/INT0/RF6, 36 SDA1/RG3, 37 SCL1/RG2, 38 VDD, 39 OSC1/CLKI/RC12, 40 OSC2/CLKO/RC15, 41 VSS, 42 IC1/RTCC/INT1/RD8, 43 IC2/~{U1CTS}/INT2/RD9, 44 IC3/PMCS2/PMA15/INT3/RD10, 45 IC4/PMCS1/PMA14/INT4/RD11, 46 OC1/RD0, 47 SOSCI/CN1/RC13, 48 SOSCO/T1CK/CN0/RC14, 49 OC2/RD1, 50 OC3/RD2, 51 OC4/RD3, 52 PMWR/OC5/IC5/CN13/RD4, 53 PMRD/CN14/RD5, 54 CN15/RD6, 55 CN16/RD7, 56 VCAP/VDDCORE, 57 ENVREG, 58 RF0, 59 RF1, 60 PMD0/RE0, 61 PMD1/RE1, 62 PMD2/RE2, 63 PMD3/RE3, 64 PMD4/RE4
2 alternate drawings of the same symbol

## PIC32MX470F512H-I/PT
designator U?, comment PIC32MX470F512H-100I/PT
High Performance 100 MHz MIPS-Based 32-Bit Flash Microcontroller with USB, 512KB Program Memory, 64-pin TQFP, Tape and Reel; Order ID: 2406564; Value: PIC32MX470F512H-I/PT; Distributor: Farnell; Price: 1930
footprint TQFP-PT64_N (Thin QFP, 64-Leads, Body 10x10mm, Pitch 0.5mm, IPC Medium Density)
footprint TQFP-PT64_L (Thin QFP, 64-Leads, Body 10x10mm, Pitch 0.5mm, IPC High Density)
footprint TQFP-PT64_M (Thin QFP, 64-Leads, Body 10x10mm, Pitch 0.5mm, IPC Low Density)
pins: 1 AN22/RPE5/PMD5/RE5 (io), 2 AN23/PMD6/RE6 (io), 3 AN27/PMD7/RE7 (io), 4 AN16/C1IND/RPG6/SCK2/PMA5/RG6 (io), 5 AN17/C1INC/RPG7/PMA4/RG7 (io), 6 AN18/C2IND/RPG8/PMA3/RG8 (io), 7 ~{MCLR} (in), 8 AN19/C2INC/RPG9/PMA2/RG9 (io), 9 VSS (power), 10 VDD (power), 11 AN5/C1INA/RPB5/VBUSON/RB5 (io), 12 AN4/C1INB/RB4 (io), 13 PGED3/AN3/C2INA/RPB3/RB3 (io), 14 PGEC3/AN2/C2INB/RPB2/CTED13/RB2 (io), 15 PGEC1/VREF-/CVREF-/AN1/RPB1/CTED12/RB1 (io), 16 PGED1/VREF+/CVREF+/AN0/RPB0/PMA6/RB0 (io), 17 PGEC2/AN6/RPB6/RB6 (io), 18 PGED2/AN7/RPB7/CTED3/RB7 (io), 19 AVDD (power), 20 AVSS (power), 21 AN8/RBP8/CTED10/RB8 (io), 22 AN9/RPB9/CTED4/PMA7/RB9 (io), 23 TMS/CVREFOUT/AN10/CTED11/PMA13/RB10 (io), 24 TDO/AN11/PMA12/RB11 (io), 25 VSS (power), 26 VDD (power), 27 TCK/AN12/PMA11/RB12 (io), 28 TDI/AN13/PMA10/RB13 (io), 29 AN14/RPB14/CTED5/PMA1/RB14 (io), 30 AN15/RPB15/OCFB/CTED6/PMA0/RB15 (io), 31 RPF4/SDA2/PMA9/RF4 (io), 32 RPF5/SCL2/PMA8/RF5 (io), 33 USBID/RPF3/RF3 (io), 34 VBUS (in), 35 VUSB3V3 (power), 36 D- (io), 37 D+ (io), 38 VDD (power), 39 OSC1/CLKI/RC12 (io), 40 OSC2/CLKO/RC15 (io), 41 VSS (power), 42 RPD8/RTCC/RD8 (io), 43 RPD9/SDA1/RD9 (io), 44 RPD10/SCL1/PMCS2/RD10 (io), 45 RPD11/PMCS1/RD11 (io), 46 RPD0/INT0/RD0 (io), 47 SOSCI/RPC13/RC13 (io), 48 SOSCO/RPC14/T1CK/RC14 (io), 49 AN24/RPD1/RD1 (io), 50 AN25/RPD2/SCK1/RD2 (io), 51 AN26/RPD3/RD3 (io), 52 RPD4/PMWR/RD4 (io), 53 RPD5/PMRD/RD5 (io), 54 RD6 (io), 55 RD7 (io), 56 VCAP (power), 57 VDD (power), 58 RPF0/RF0 (io), 59 TRCLK/RPF1/RF1 (io), 60 TRD0/PMD0/RE0 (io), 61 TRD1/PMD1/RE1 (io), 62 TRD2/AN20/PMD2/RE2 (io), 63 TRD3/RPE3/CTPLS/PMD3/RE3 (io), 64 AN21/PMD4/RE4 (io)

## RS5C348A-E2-F
designator U?
Real time clock with SPI interface.; Distributor: Chipcad; Order ID: RS5C348A-E2-F; Price: 264; Value: RS5C348A-E2-F
footprint SSOP10
pins: 1 32KOUT, 2 SCLK, 3 SO, 4 SI, 5 VSS, 6 nINTR, 7 CE, 8 OSCOUT, 9 OSCIN, 10 VDD

## SC189-1.8V
designator U?
2.5MHz, 1.5A Synchronous   Step Down Regulator; Order ID: SC189LSKCT-ND; Value: SC189_1.8V; Distributor: Digikey; Price: 100
footprint SOT23-5
pins: 1 IN, 2 GND, 3 EN, 4 VOUT, 5 LX

## SC189_3.3V
designator U?
2.5MHz, 1.5A Synchronous   Step Down Regulator; Order ID: SC189ZSKCT-ND; Value: SC189-3.3V; Distributor: Digikey; Price: 100
footprint SOT23-5
pins: 1 IN, 2 GND, 3 EN, 4 VOUT, 5 LX

## SHT21
designator U?  (value not drawn)
SENSIRION  SHT21  SENSOR, HUMIDITY & TEMP, 3X3MM, 2%; Order ID: 1855468; Distributor: Farnell; Price: 1100; Value: SENSOR, HUMIDITY & TEMP
footprint SHT21
pins: 1 SDA, 2 GND, 3 NC, 4 NC, 5 VDD, 6 SCL

## SIMCOM_SIM900
designator U?, comment SIMCOM SIM900
Distributor: TME; Order ID: *; Price: 3600; Value: SIMCOM SIM900
footprint SIMCOM_SIM900 (SIMCOM SIM900)
pins: 1 PWRKEY, 2 NC, 3 DTR, 4 RI, 5 DCD, 6 NC, 7 CTS, 8 RTS, 9 TXD, 10 RXD, 11 DISP_CLK, 12 DISP_DATA, 13 DISP_D/C, 14 DISP_CS, 15 VDD_EXT, 16 NRESET, 17 GND, 18 GND, 19 MIC_P, 20 MIC_N, 21 SPK_P, 22 SPK_N, 23 NC, 24 NC, 25 ADC, 26 VRTC, 27 DBG_TXD, 28 DBG_RXD, 29 GND, 30 SIM_VDD, 31 SIM_DATA, 32 SIM_CLK, 33 SIM_RST, 34 SIM_PRESENCE, 35 PWM1, 36 PWM2, 37 SDA, 38 SCL, 39 GND, 40 GPIO1/KBR4, 41 GPIO2/KBR3, 42 GPIO3/KBR2, 43 GPIO4/KBR1, 44 GPIO5/KBR0, 45 GND, 46 GND, 47 GPIO6/KBC4, 48 GPIO7/KBC3, 49 GPIO8/KBC2, 50 GPIO9/KBC1, 51 GPIO10, 52 NETLIGHT, 53 GND, 54 GND, 55 VBAT, 56 VBAT, 57 VBAT, 58 GND, 59 GND, 60 RF_ANT, 61 GND, 62 GND, 63 GND, 64 GND, 65 GND, 66 STATUS, 67 GPIO11, 68 GPIO12

## SN74AHC1G00DCKR
designator U?
NAND GATE SN74AHC1G00DCKR  IC, NAND GATE, SINGLE 2INPUT, SMD; Order ID: 1287496; Distributor: Farnell; Price: 20; Value: SN74AHC1G00DCKR
footprint SOT23-5
pins: 1 A (in), 2 B (in), 3 GND (power), 4 Y (out), 5 VCC (power)
text: NAND

## SN74AUP1G80DBVR
designator U*, comment SN74AUP1G80
TEXAS INSTRUMENTS - SN74AUP1G80DBVR - IC, FLIP-FLOP, DTYPE, CMOS, 5TSOP; Flip-Flop Type: D; Propagation Delay: 6.4; Supply Voltage Min: 800; Supply Voltage Max: 3.6; Logic Case Style: SOT-23; No. of Pins: 5; Frequency: 260; Trigger Type: Positive Edge; SVHC: No SVHC (15-Jun-2015; Supplier 1: Farnell; Manufacturer: TEXAS INSTRUMENTS; Manufacturer Part Number: SN74AUP1G80DBVR; RoHS: YES; Stock 1: 2791; Pricing 1: 1=33,938, 10=31,155, 100=28,288, 250=25,927, 500=21,501 (EUR); Output Current: -; IC Output Type: -; Operating Temperature Min: -40; Operating Temperature Max: 85; Packaging: Cut Tape; MSL: -; ComponentLink1URL: http://www.farnell.com/datasheets/1887615.pdf; ComponentLink1Description: http://www.farnell.com/datasheets/1887615.pdf
footprint SOT23-5
part A pins: 1 D, 2 CLK, 4 Q
part B pins: 3 GND, 5 VCC

## STM32F042K6U6
designator U*, comment STM32F042
32 Bit Microcontroller, USB Line, ARM Cortex-M0, 48 MHz, 32 KB, 6 KB, 32, UFQFN; Manufacturer: STMICROELECTRONICS; Manufacturer Part Number: STM32F042K6U6; CPU Speed: 48; Program Memory Size: 32; RAM Memory Size: 6; No. of I/O's: 28; Embedded Interface Type: CAN, I2; Supply Voltage Min: 2; Supply Voltage Max: 3.6; SVHC: No SVHC (15-Jun-2015; Supplier 1: Farnell; RoHS: YES; Stock 1: 468; Pricing 1: 1=826,305, 10=687,182, 100=590,218, 250=556,491, 500=489,037, 1000=415,682 (EUR); Architecture: ARM Cortex-M0; No. of Pins: 32; MCU Case Style: UFQFN; Packaging: Each; MSL: MSL 3 - 168 hours; ComponentLink1URL: http://www.farnell.com/datasheets/1886881.pdf; ComponentLink1Description: http://www.farnell.com/datasheets/1886881.pdf; Supplier Part Number 1: 2469554
footprint QFN65P700X700X100_HS-33N (QFN, 32-Leads, Body 7,00x7,00mm, Pitch 0,65mm, Thermal Pad 4,70x4,70mm, IPC Medium Density)
pins: 1 VDD, 2 PF0-OSC_IN, 3 PF1-OSC_OUT, 4 NRST, 5 VDDA, 6 PA0, 7 PA1, 8 PA2, 9 PA3, 10 PA4, 11 PA5, 12 PA6, 13 PA7, 14 PB0, 15 PB1, 16 PB2, 17 VDDIO2, 18 PA8, 19 PA9, 20 PA10, 21 PA11, 22 PA12, 23 PA13, 24 PA14, 25 PA15, 26 PB3, 27 PB4, 28 PB5, 29 PB6, 30 PB7, 31 BOOT0-PF11, 32 PB8, 33 VSS/VSSA

## TC1240AECHTR
designator U1
Positive Doubling Charge Pumps with Shutdown, +2.5V to +5.5V, 6-Pin SOT-23, Industrial Temperature; Order ID: 1605579; Value: TC1240AECHTR; Price: 344.00; Distributor: Farnell
footprint SOT23-6
footprint SOT-23-CH6_L (SOT23, 6-Leads, Body 2.9x1.6mm, Pitch 0.95mm, Lead Span 2.7mm, IPC High Density)
footprint SOT-23-CH6_M (SOT23, 6-Leads, Body 2.9x1.6mm, Pitch 0.95mm, Lead Span 2.7mm, IPC Low Density)
pins: 1 VIN (power), 2 GND (power), 3 C-, 4 SHDN (in), 5 VOUT (power), 6 C+

## TC4428AEUA
designator U?
Mosfte Driver 1.5A output, IC MOSFET DVR 1.5A DUAL HS 8MSOP; Value: TC4428; Order ID: TC4428AEUA; Distributor: Chipcad; Price: 370
footprint MSOP8
pins: 1 NC1, 2 INA, 3 GND, 4 INB, 5 OUTB, 6 VDD, 7 ~OUTA, 8 NC2

## TC7660
designator U?  value TC7660
Microchip charge pump DC-DC converter (Microchip); Order ID: TC7660COA; Distributor: ChipCAD; Price: 156.00
footprint SO8
footprint SO-8_N (8-Pin Small Outline Integrated Circuit 1.27 mm Pitch, IPC Medium Density)
pins: 1 NC, 2 CAP+, 3 GND, 4 CAP-, 5 VOUT, 6 LV, 7 OSC, 8 V+

## TDC GP21
designator U?  value TDC-GP21 (QFN32) ACAM MNR1839
Time-to-Digital Converter; Order ID: ACM026; Distributor: Chipcad; Price: 3280
footprint 32M1-A_M (32-Pin Quad Flat No-Lead 0.5 mm Pitch, IPC Low Density)
pins: 1 XIN, 2 XOUT, 3 VIO, 4 GND, 5 FIRE_UP, 6 FIRE_DOWN, 7 FIRE_IN, 8 INTN, 9 SSN, 10 SCK, 11 SI, 12 SO, 13 RSTN, 14 VCC, 15 CLK32OUT, 16 CLK32IN, 17 SENSET, 18 LOADT, 19 PT4, 20 PT3, 21 GND, 22 VIO, 23 PT2, 24 PT1, 25 EN_STOP2, 26 EN_STOP1, 27 STOP2, 28 GND, 29 VCC, 30 STOP1, 31 START, 32 EN_START

## TLC556CD
designator U?
TEXAS INSTRUMENTS  TLC556CD  IC, TIMER, DUAL, 2.1MHZ, 15V, SOIC-14; Order ID: 1103187; Distributor: Farnell; Price: 260; Value: TLC556CD
footprint SOIC14_S (20-Pin Plastic Body Small Outline Integrated Circuit 1.27 mm Pitch, IPC Low Density)
pins: 1 1 DISCH, 2 1 THRES, 3 1 CONT, 4 1 RST, 5 1 OUT, 6 1 TRIG, 7 GND, 8 2 TRIG, 9 2 OUT, 10 2 RST, 11 2 CONT, 12 2 THRES, 13 2 DISCH, 14 VDD

## TPS72301
designator U?  value TPS72301  (hidden comment: *)
200mA Low-Noise, High-PSRR Negative Output Low-Dropout Linear Regulators; Order ID: 296-27049-1-ND; Distributor: Digikey; Price: 630.00
footprint SOT23-5
pins: 1 GND, 2 IN, 3 EN, 4 FB, 5 OUT

## TPS79301
designator U?  value TPS79301DBV  (hidden comment: *)
TEXAS INSTRUMENTS - TPS79301DBVRQ1 - V REG, LDO 0.2A ADJ, SMD, SOT-23-6; Distributor: Lomex; Order ID: 89-10-49; Price: 61
footprint SOT23-6
pins: 1 IN, 2 GND, 3 EN, 4 NR, 5 FB, 6 OUT

## TPS79333DBVR
designator U?  value TPS79333DBVR  (hidden comment: *)
TEXAS INSTRUMENTS - TPS79333DBVR - IC, V REG, LINEAR, 0.2A, SOT-23-5; Order ID: 1470478; Distributor: Farnell; Price: 101
footprint SOT23-6
pins: 1 IN, 2 GND, 3 EN, 4 BYPASS, 5 OUT

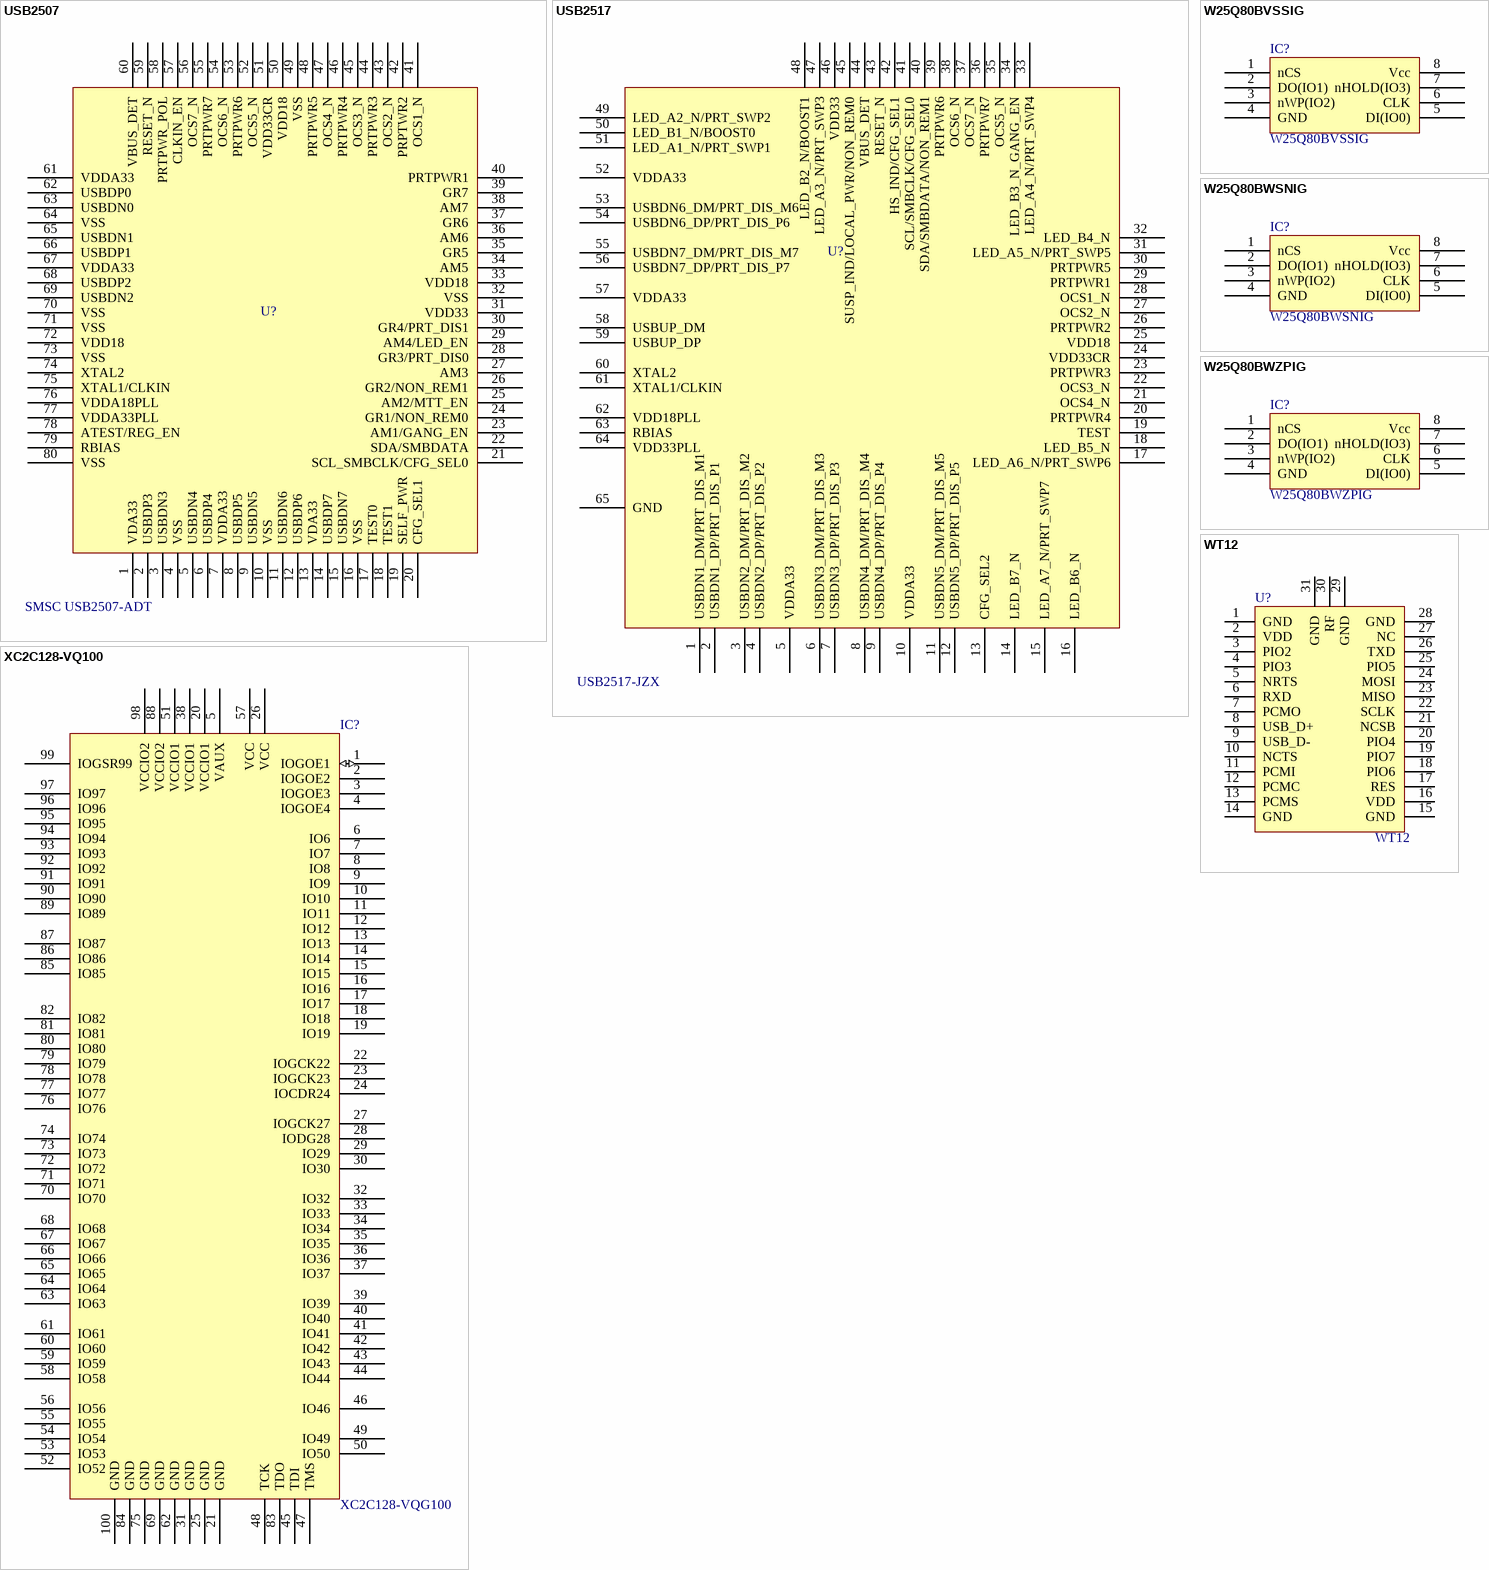
[diagram p3: symbols USB2507 to XC2C128-VQ100]

## USB2507
designator U?  value SMSC USB2507-ADT
SMSC - USB2507-ADT - CONTROLLER, HUB, USB2.0, 7PORT, 80TQFP; Order ID: MIC21432; Distributor: Chipcad; Price: 1330
footprint TQFP-80_N (80-Pin Thin Plastic Quad Flat Pack 0.5 mm Pitch, 1.0/0.1 mm Lead Form, IPC Medium Density)
pins: 1 VDA33, 2 USBDP3, 3 USBDN3, 4 VSS, 5 USBDN4, 6 USBDP4, 7 VDDA33, 8 USBDP5, 9 USBDN5, 10 VSS, 11 USBDN6, 12 USBDP6, 13 VDA33, 14 USBDP7, 15 USBDN7, 16 VSS, 17 TEST0, 18 TEST1, 19 SELF_PWR, 20 CFG_SEL1, 21 SCL_SMBCLK/CFG_SEL0, 22 SDA/SMBDATA, 23 AM1/GANG_EN, 24 GR1/NON_REM0, 25 AM2/MTT_EN, 26 GR2/NON_REM1, 27 AM3, 28 GR3/PRT_DIS0, 29 AM4/LED_EN, 30 GR4/PRT_DIS1, 31 VDD33, 32 VSS, 33 VDD18, 34 AM5, 35 GR5, 36 AM6, 37 GR6, 38 AM7, 39 GR7, 40 PRTPWR1, 41 OCS1_N, 42 PRPTWR2, 43 OCS2_N, 44 PRTPWR3, 45 OCS3_N, 46 PRTPWR4, 47 OCS4_N, 48 PRTPWR5, 49 VSS, 50 VDD18, 51 VDD33CR, 52 OCS5_N, 53 PRTPWR6, 54 OCS6_N, 55 PRTPWR7, 56 OCS7_N, 57 CLKIN_EN, 58 PRTPWR_POL, 59 RESET_N, 60 VBUS_DET, 61 VDDA33, 62 USBDP0, 63 USBDN0, 64 VSS, 65 USBDN1, 66 USBDP1, 67 VDDA33, 68 USBDP2, 69 USBDN2, 70 VSS, 71 VSS, 72 VDD18, 73 VSS, 74 XTAL2, 75 XTAL1/CLKIN, 76 VDDA18PLL, 77 VDDA33PLL, 78 ATEST/REG_EN, 79 RBIAS, 80 VSS

## USB2517
designator U?  value USB2517-JZX
USB2517-JZX - IC, 7-PORT USB 2.0 HUB CONTRL, 64QFN; Order ID: MIC21454; Distributor: Chipcad; Price: 1040
footprint QFN64_900x900_HSINK (64-Pin Quad Flat No-Lead 0.5 mm Pitch, IPC Low Density)
pins: 1 USBDN1_DM/PRT_DIS_M1, 2 USBDN1_DP/PRT_DIS_P1, 3 USBDN2_DM/PRT_DIS_M2, 4 USBDN2_DP/PRT_DIS_P2, 5 VDDA33, 6 USBDN3_DM/PRT_DIS_M3, 7 USBDN3_DP/PRT_DIS_P3, 8 USBDN4_DM/PRT_DIS_M4, 9 USBDN4_DP/PRT_DIS_P4, 10 VDDA33, 11 USBDN5_DM/PRT_DIS_M5, 12 USBDN5_DP/PRT_DIS_P5, 13 CFG_SEL2, 14 LED_B7_N, 15 LED_A7_N/PRT_SWP7, 16 LED_B6_N, 17 LED_A6_N/PRT_SWP6, 18 LED_B5_N, 19 TEST, 20 PRTPWR4, 21 OCS4_N, 22 OCS3_N, 23 PRTPWR3, 24 VDD33CR, 25 VDD18, 26 PRTPWR2, 27 OCS2_N, 28 OCS1_N, 29 PRTPWR1, 30 PRTPWR5, 31 LED_A5_N/PRT_SWP5, 32 LED_B4_N, 33 LED_A4_N/PRT_SWP4, 34 LED_B3_N_GANG_EN, 35 OCS5_N, 36 PRTPWR7, 37 OCS7_N, 38 OCS6_N, 39 PRTPWR6, 40 SDA/SMBDATA/NON_REM1, 41 SCL/SMBCLK/CFG_SEL0, 42 HS_IND/CFG_SEL1, 43 RESET_N, 44 VBUS_DET, 45 SUSP_IND/LOCAL_PWR/NON_REM0, 46 VDD33, 47 LED_A3_N/PRT_SWP3, 48 LED_B2_N/BOOST1, 49 LED_A2_N/PRT_SWP2, 50 LED_B1_N/BOOST0, 51 LED_A1_N/PRT_SWP1, 52 VDDA33, 53 USBDN6_DM/PRT_DIS_M6, 54 USBDN6_DP/PRT_DIS_P6, 55 USBDN7_DM/PRT_DIS_M7, 56 USBDN7_DP/PRT_DIS_P7, 57 VDDA33, 58 USBUP_DM, 59 USBUP_DP, 60 XTAL2, 61 XTAL1/CLKIN, 62 VDD18PLL, 63 RBIAS, 64 VDD33PLL, 65 GND

## W25Q80BVSSIG
designator IC?
IC FLASH 8MBIT 104MHZ 8SOIC; Order ID:: W25Q64BVSSIG; Distributor:: Digikey; Price:: 110; Value:: W25Q80BVSSIG
footprint SO8 SM
pins: 1 nCS, 2 DO(IO1), 3 nWP(IO2), 4 GND, 5 DI(IO0), 6 CLK, 7 nHOLD(IO3), 8 Vcc

## W25Q80BWSNIG
designator IC?
IC FLASH 8MBIT 80MHZ 8SOIC; Order ID:: W25Q80BWSNIG-ND; Distributor:: Digikey; Price:: 130; Value:: W25Q80BWSNIG
footprint SO8 SM
pins: 1 nCS, 2 DO(IO1), 3 nWP(IO2), 4 GND, 5 DI(IO0), 6 CLK, 7 nHOLD(IO3), 8 Vcc

## W25Q80BWZPIG
designator IC?
IC FLASH 8MBIT 80MHZ 8-WSON (6x5); Order ID:: W25Q80BWZPIG-ND; Distributor:: Digikey; Price:: 150; Value:: W25Q80BWZPIG
footprint WSON-8 (WSON-8 (6mmx5mm))
pins: 1 nCS, 2 DO(IO1), 3 nWP(IO2), 4 GND, 5 DI(IO0), 6 CLK, 7 nHOLD(IO3), 8 Vcc

## WT12
designator U?
CLASS 2 BLTOOTH 2.1+EDR MODULE; Order ID: 1446-1011-1-ND; Distributor: Digikey; Price: 6000; Value: WT12
footprint WT12 (Bluegiga bluetooth wt12)
pins: 1 GND, 2 VDD, 3 PIO2, 4 PIO3, 5 NRTS, 6 RXD, 7 PCMO, 8 USB_D+, 9 USB_D-, 10 NCTS, 11 PCMI, 12 PCMC, 13 PCMS, 14 GND, 15 GND, 16 VDD, 17 RES, 18 PIO6, 19 PIO7, 20 PIO4, 21 NCSB, 22 SCLK, 23 MISO, 24 MOSI, 25 PIO5, 26 TXD, 27 NC, 28 GND, 29 GND, 30 RF, 31 GND
2 alternate drawings of the same symbol

## XC2C128-VQ100
designator IC?, comment XC2C128-VQG100
IC CR-II CPLD 128MCELL 100-VQFP; Value: XC2C128-6VQG100C; Order ID: XC2C128-6VQ100C; Distributor: Chipcad; Price: 2040
footprint VQ100
pins: 1 IOGOE1 (io), 2 IOGOE2, 3 IOGOE3, 4 IOGOE4, 5 VAUX (power), 6 IO6, 7 IO7, 8 IO8, 9 IO9, 10 IO10, 11 IO11, 12 IO12, 13 IO13, 14 IO14, 15 IO15, 16 IO16, 17 IO17, 18 IO18, 19 IO19, 20 VCCIO1 (power), 21 GND (power), 22 IOGCK22, 23 IOGCK23, 24 IOCDR24, 25 GND (power), 26 VCC (power), 27 IOGCK27, 28 IODG28, 29 IO29, 30 IO30, 31 GND (power), 32 IO32, 33 IO33, 34 IO34, 35 IO35, 36 IO36, 37 IO37, 38 VCCIO1 (power), 39 IO39, 40 IO40, 41 IO41, 42 IO42, 43 IO43, 44 IO44, 45 TDI, 46 IO46, 47 TMS, 48 TCK, 49 IO49, 50 IO50, 51 VCCIO1 (power), 52 IO52, 53 IO53, 54 IO54, 55 IO55, 56 IO56, 57 VCC (power), 58 IO58, 59 IO59, 60 IO60, 61 IO61, 62 GND (power), 63 IO63, 64 IO64, 65 IO65, 66 IO66, 67 IO67, 68 IO68, 69 GND (power), 70 IO70, 71 IO71, 72 IO72, 73 IO73, 74 IO74, 75 GND (power), 76 IO76, 77 IO77, 78 IO78, 79 IO79, 80 IO80, 81 IO81, 82 IO82, 83 TDO, 84 GND (power), 85 IO85, 86 IO86, 87 IO87, 88 VCCIO2 (power), 89 IO89, 90 IO90, 91 IO91, 92 IO92, 93 IO93, 94 IO94, 95 IO95, 96 IO96, 97 IO97, 98 VCCIO2 (power), 99 IOGSR99, 100 GND (power)